# EAGLE library part 74LVC2G14 (library n64-rgb-dac)
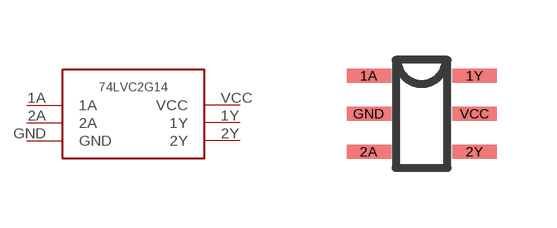
[diagram p2: symbol with the pads of SOT457-1; footprint SOT457-1]

Designator prefix IC

## 74LVC2G14  [SOT457-1]
1A  1A  in
1Y  1Y  out
2A  2A  in
2Y  2Y  out
GND  GND  sup
VCC  VCC  pwr

## Footprint SOT457-1 (pad centres in mm)
SOT457-1 Auto generated by make-symbol-device-package-bsdl.ulp Rev. 44
smd 1.1 x 0.35: 1A -1.325,0.95; 1Y 1.325,0.95; 2A -1.325,-0.95; 2Y 1.325,-0.95; GND -1.325,0; VCC 1.325,0